# EAGLE library part S6B-PH-SM4-TB(LF)(SN) (library S6B-PH-SM4-TB_LF__SN_)
PH Series 6 Position 2 mm Pitch Surface Mount Right Angle Shrouded Header
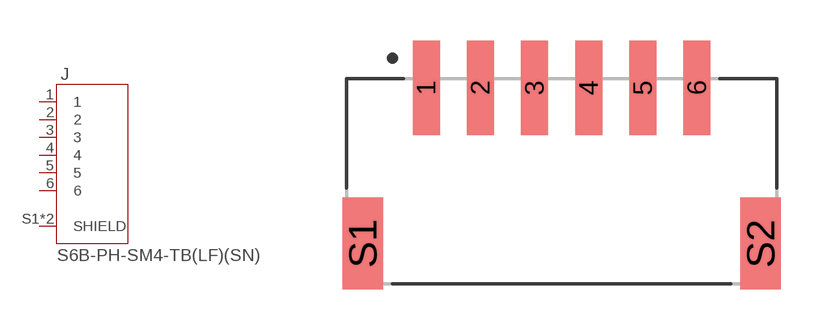
[diagram p0: symbol with the pads of JST_S6B-PH-SM4-TB(LF)(SN); footprint JST_S6B-PH-SM4-TB(LF)(SN)]

Designator prefix J

## S6B-PH-SM4-TB(LF)(SN) (Availability: Unavailable; Description: PH Series 6 Position 2 mm Pitch Surface Mount Right Angle Shrouded Header; MF: JST Sales; MP: S6B-PH-SM4-TB_LF__SN_; Package: None; Price: None)  [JST_S6B-PH-SM4-TB(LF)(SN)]
1  1  pas
2  2  pas
3  3  pas
4  4  pas
5  5  pas
6  6  pas
S1  SHIELD  pas
S2  SHIELD  pas

## Footprint JST_S6B-PH-SM4-TB(LF)(SN) (pad centres in mm)
smd 1 x 3.5: 1 -5,0; 2 -3,0; 3 -1,0; 4 1,0; 5 3,0; 6 5,0
smd 1.5 x 3.4: S1 -7.35,-5.75; S2 7.35,-5.75